# Altium integrated library Diodes.IntLib: 4 symbols
Pins are listed as number, name and electrical type; pins without a type are passive.

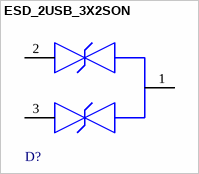
[diagram p0: symbol ESD_2USB_3X2SON]

## ESD_2USB_3X2SON
designator D?, comment ESD122DMXR  (value not drawn)
TVS DIODE 3.6V 8.4V 3X2SON; Peak Pulse Power: 20W; Min Breakdown Voltage: 5.1V; Average Rectified Current: 10A; Element Configuration: Common Cathode; Number of Channels: 2; Max Reverse Voltage (DC): 100V; Interface: USB; Power Line Protection: No; Peak Pulse Current: 2.5A; Clamping Voltage: 8.4V; Min Operating Temperature: -40°C; Number of Pins: 3; Resistor Type: Zener; Mount: Through Hole; Case/Package: TO-220-3; Reverse Standoff Voltage: 3.6V; RoHS Compliant: Yes; Max Operating Temperature: 125°C; Number of Bidirectional Channels: 2; Packaging: Rail/Tube
footprint FP-DMX0003A-MFG
pins: 1 GND, 2 IO1, 3 IO2


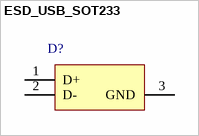
[diagram p1: symbol ESD_USB_SOT233]

## ESD_USB_SOT233
designator D?, comment TPD2EUSB30DRTR  (value not drawn)
ESD Solution for Super-Speed (6 Gbps) USB 3.0 Interface, 2 Channels, -40 to +85 degC, 3-pin SOT (DRT), Green (Rohs & No Sb/Br); Manufacturer: Texas Instruments; Differential Capacitance(pF): 0.01; Breakdown Voltage(Min)(V): 9; HDMI: TRUE; IEC 61000-4-2 Air-Gap(+/- kV): 8; IO Leakage Current(nA): 10; IO Capacitance(Typ)(pF): 0.7; Mounting Technology: Surface Mount; PackageDescription: 3-Flat Lead Plastic Small Outline, 1 x 1 mm (inc leads), 0.35 mm Pitch; IEC 61000-4-2 Contact(+/- kV): 8; USB Super Speed: TRUE; Eco-Plan: Green (RoHS & no Sb/Br); USB High Speed: TRUE; PackageReference: DRT0003A; SubFamily: ESD Solution; USB Full Speed: TRUE; ComponentLink1Description: Datasheet; ComponentLink2URL: SamplesURL:http://www.ti.com/product/tpd2eusb30#samples; PackageVersion: revD, Jun-2008; ComponentLink2Description: URL Link1; 1394 / Firewire: TRUE; PartNumber: TPD2EUSB30DRTR; ComponentLink1URL: http://www.ti.com/general/docs/lit/getliterature.tsp?genericPartNumber=TPD2EUSB30&fileType=pdf; DatasheetVersion: SLVSAC2C; Serial ATA / eSATA: TRUE
footprint DRT0003A (SOTFL, 3-Leads, Body 1x1mm (inc leads), Pitch 0.35mm)
pins: 1 D+ "High-speed ESD clamp, provides ESD protection to the high-speed differential data line.", 2 D- "High-speed ESD clamp, provides ESD protection to the high-speed differential data line.", 3 GND "Ground"


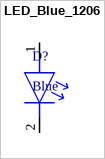
[diagram p2: symbol LED_Blue_1206]

## LED_Blue_1206
designator D?, comment Blue
-25℃~+80℃ 120mW 120° 2.6V~3.1V 28mcd 2mA 458nm~475nm 460nm Blue Discrete Diode Water Clear 0603 LED Indication - Discrete ROHS
footprint ORH-B36G (-25℃~+80℃ 120mW 120° 2.6V~3.1V 28mcd 2mA 458nm~475nm 460nm Blue Discrete Diode Water Clear 0603 LED Indication - Discrete ROHS)
pins: 1 A, 2 K


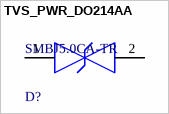
[diagram p3: symbol TVS_PWR_DO214AA]

## TVS_PWR_DO214AA
designator D?, comment SMBJ5.0CA-TR
13.4V 20uA 298A@8/20us 4kW@8/20us 5V 6.4V Bidirectional IEC 61000-4-2、IEC 61000-4-5、IEC 61000-4-4 TVS SMB(DO-214AA) ESD and Surge Protection (TVS/ESD) ROHS; Manufacturer: STMicroelectronics; Max Junction Temp: +150°C; Number Of Channels: 1; Peak Pulse Current: 68A; Standoff Height: 0.05mm; Peak Pulse Power: 600W; Clamping Voltage: 9.2V; Manufacturer Part Number: SMBJ5.0CA-TR; Device Class L3: unset; Temperature Range Low: -55°C; Digikey Description: TVS DIODE 5V 13.4V SMB; Device Class L2: TVS Diodes; Mouser Description: TVS Diodes - Transient Voltage Suppressors 600W 5.0V Bidirect; Height: 2.65mm; ComponentLink2Description: Datasheet; Lead Free: Yes; RoHS: TRUE; Direction: Bidirectional; Device Class L1: Circuit Protection; Package: SMB-CA; Reverse Standoff Voltage: 5V; ComponentLink2URL: https://www.st.com/content/ccc/resource/technical/document/datasheet/19/78/91/39/07/cd/40/65/CD00001366.pdf/files/CD00001366.pdf/_jcr_content/translations/en.CD00001366.pdf; Temperature: -55°C to +150°C; Automotive: No; Octopart: https://octopart.com/smbj5.0ca-tr-stmicroelectronics-347080; Temperature Range High: +150°C; Breakdown Voltage: 6.4V; Category: Diode
footprint FP-SMB-CA-MFG
pins: 1, 2